# EAGLE library part I-07547_GP2Y0E03 (library 01)
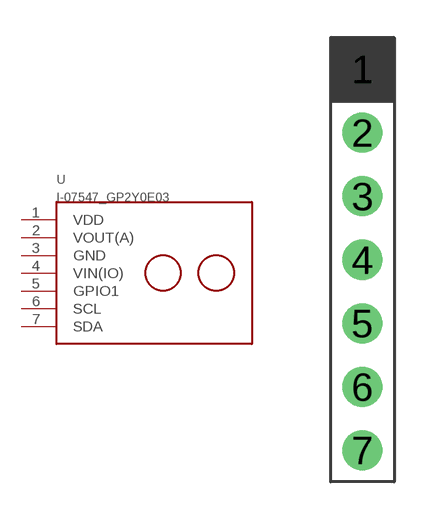
[diagram p5: symbol with the pads of GP2Y0E03; footprint GP2Y0E03]

Designator prefix U

## I-07547_GP2Y0E03  [GP2Y0E03]
1  VDD
2  VOUT(A)
3  GND
4  VIN(IO)
5  GPIO1
6  SCL
7  SDA

## Footprint GP2Y0E03 (pad centres in mm)
drill 0.8 pad 1.6 octagon: 1 0,7.62
drill 0.8 pad 1.6: 2 0,5.08; 3 0,2.54; 4 0,0; 5 0,-2.54; 6 0,-5.08; 7 0,-7.62